# Altium footprint library XTAL_ASDMB-24.576MHZ-LC-T.PcbLib: 1 footprints
Each footprint in its own frame and in the unit in brackets; x right, y up, seen from the top. Pads: shape width x height; smd on the part's side, far side on the other; paste and mask are expansions set on the pad; w line width, h text height; cw(c..) or ccw(c..) is an arc to the next point about the centre after c.
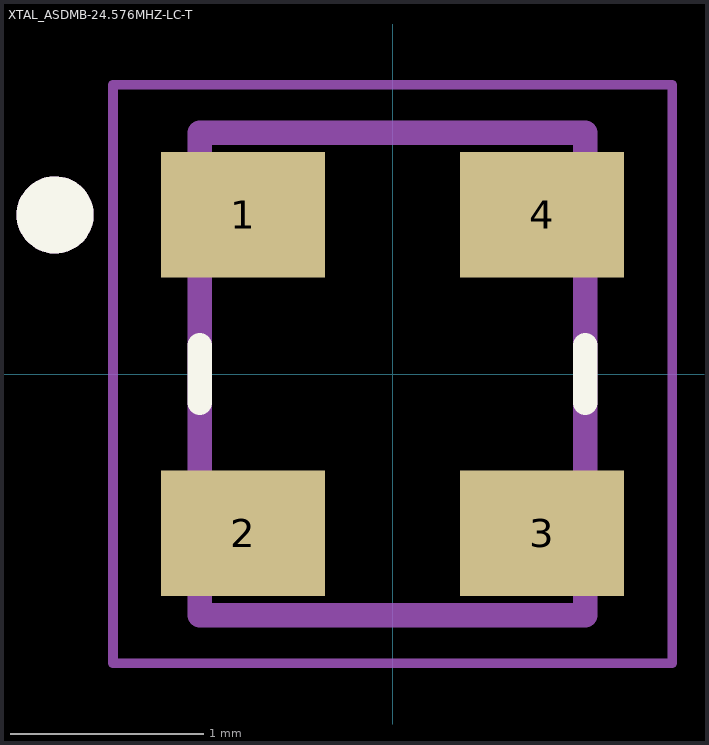
[diagram p0: the footprint, top view; thin cyan lines are the x and y axes]

## XTAL_ASDMB-24.576MHZ-LC-T [mm]
height 0.9
pads (4):
  rect 0.85x0.65 smd: 1(-0.775,0.825) 2(-0.775,-0.825) 3(0.775,-0.825) 4(0.775,0.825)
Top Overlay:
  circle w0.2: c-1.75,0.825 r0.1
  lines w0.127: -1,-0.15 -1,0.15 ; 1,-0.15 1,0.15
Mechanical 13:
  circle w0.2: c-1.75,0.825 r0.1
  lines w0.127: -1,-1.25 1,-1.25 1,1.25 -1,1.25 -1,-1.25
Mechanical 15:
  lines w0.05: -1.45,-1.5 1.45,-1.5 1.45,1.5 -1.45,1.5 -1.45,-1.5